# Altium footprint library potentiometer.PcbLib: 1 footprints
Each footprint in its own frame and in the unit in brackets; x right, y up, seen from the top. Pads: shape width x height; smd on the part's side, far side on the other; paste and mask are expansions set on the pad; w line width, h text height; cw(c..) or ccw(c..) is an arc to the next point about the centre after c.
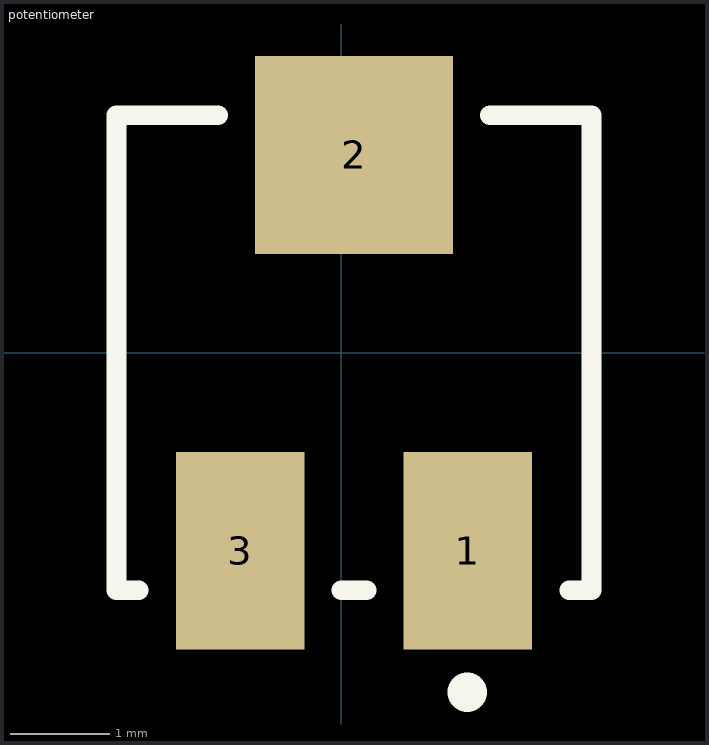
[diagram p0: the footprint, top view; thin cyan lines are the x and y axes]

## potentiometer [mm]
pads (3):
  rect 1.3x2 smd paste+0 mask+0: 1(1.277,-2) 3(-1.023,-2)
  rect 2x2 smd paste+0 mask+0: 2(0.127,2)
Top Overlay:
  circle w0.4: c1.27,-3.429 r0
  lines w0.2: -2.048,-2.4 -2.273,-2.4 -2.273,2.4 -1.248,2.4 ; 0.002,-2.4 0.252,-2.4 ; 1.502,2.4 2.527,2.4 2.527,-2.4 2.302,-2.4
3D body "Res_Bourns_3314J-1-504E_eec.STEP": height 0.25, standoff 0, extent -2.373,-3.1 2.627,3.1